# Altium footprint library SrcewTerminal.PcbLib: 1 footprints
Each footprint in its own frame and in the unit in brackets; x right, y up, seen from the top. Pads: shape width x height; smd on the part's side, far side on the other; paste and mask are expansions set on the pad; w line width, h text height; cw(c..) or ccw(c..) is an arc to the next point about the centre after c.
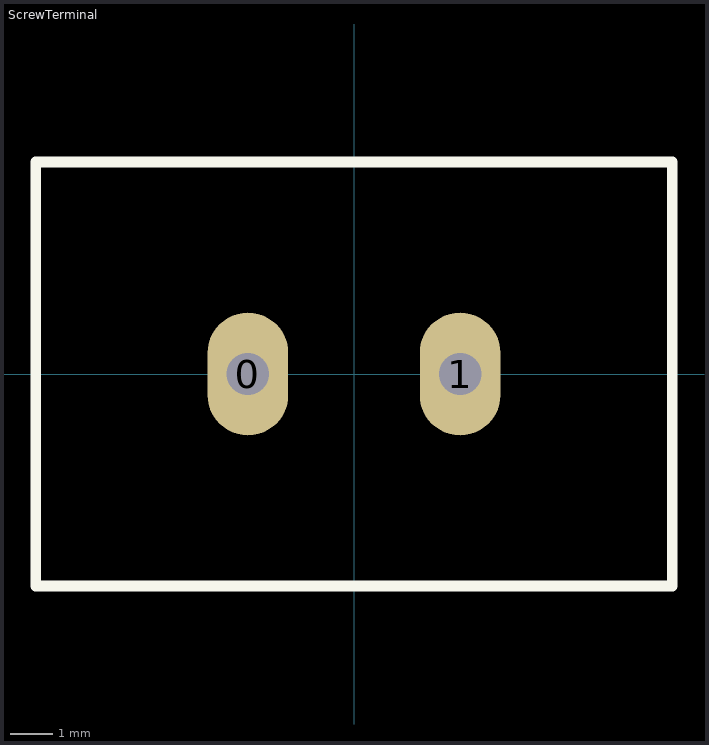
[diagram p0: the footprint, top view; thin cyan lines are the x and y axes]

## ScrewTerminal [mm]
pads (2):
  oval 1.9x2.9 hole 1: 0(-2.5,0) 1(2.5,0)
Top Overlay:
  lines w0.254: -7.5,-5 7.5,-5 7.5,5 -7.5,5 -7.5,-5
3D body "User Library-2 Way PCB Screw Terminal Block 5mm.x_t": height 15.2, standoff -3.5, extent -5.1,-4.3 4.9,4.7